# EAGLE library part CDCM1802 (library NewSDR)
Texas Instruments Clock Buffer with Programmable Divider, LVPECL I/O + LVCMOS Output
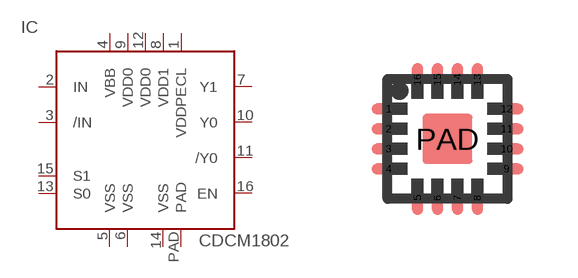
[diagram p143: symbol with the pads of QFN16; footprint QFN16]

Designator prefix IC

## CDCM1802  [QFN16]
1  VDDPECL  pwr
2  IN  in
3  /IN  in
4  VBB  pas
5  VSS  pwr
6  VSS  pwr
7  Y1  out
8  VDD1  pwr
9  VDD0  pwr
10  Y0  out
11  /Y0  out
12  VDD0  pwr
13  S0  in
14  VSS  pwr
15  S1  in
16  EN  in
PAD  PAD  pwr

## Footprint QFN16 (pad centres in mm)
QFN-16 Quad Flat No Leads
smd 0.85 x 0.28: 1 -1.475,0.75; 2 -1.475,0.25; 3 -1.475,-0.25; 4 -1.475,-0.75; 9 1.475,-0.75; 10 1.475,-0.25; 11 1.475,0.25; 12 1.475,0.75
smd 0.28 x 0.85: 5 -0.75,-1.475; 6 -0.25,-1.475; 7 0.25,-1.475; 8 0.75,-1.475; 13 0.75,1.475; 14 0.25,1.475; 15 -0.25,1.475; 16 -0.75,1.475
smd 1.245 x 1.245: PAD 0,0